# EAGLE library part LC709203F (library oresat-batteries)
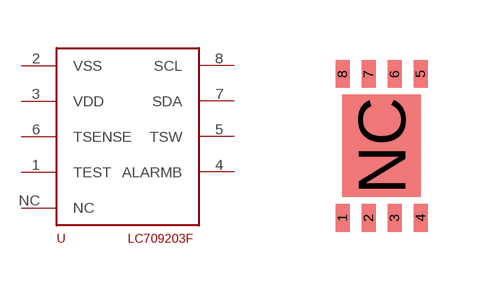
[diagram p2: symbol with the pads of WDFN8_3X4; footprint WDFN8_3X4]

Designator prefix U

## LC709203F  [WDFN8_3X4]
1  TEST
2  VSS
3  VDD
4  ALARMB
5  TSW
6  TSENSE
7  SDA
8  SCL
NC  NC

## Footprint WDFN8_3X4 (pad centres in mm)
smd 0.35 x 0.7: 1 -0.975,-1.8; 2 -0.325,-1.8; 3 0.325,-1.8; 4 0.975,-1.8; 5 0.975,1.8; 6 0.325,1.8; 7 -0.325,1.8; 8 -0.975,1.8
smd 1.96 x 2.56: NC 0,0